# Altium schematic symbol library My_lib.SchLib: 1 symbol
Pins are listed as number, name and electrical type; pins without a type are passive.

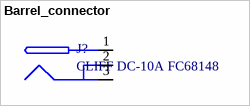
[diagram p0: symbol Barrel_connector]

## Barrel_connector
designator J?, comment CLIFF DC-10A FC68148
Gniazdo; zasilające DC; męskie; 5,5/2,1mm; 5,5mm; 2,1mm; lutowanie; MPN: DC-10A FC68148; Manufacturer: Cliff; Supplier: TME; SoC: FC68148
footprint FC68148
pins: 1, 2, 3